# EAGLE library part LM5050 (library LM5050)
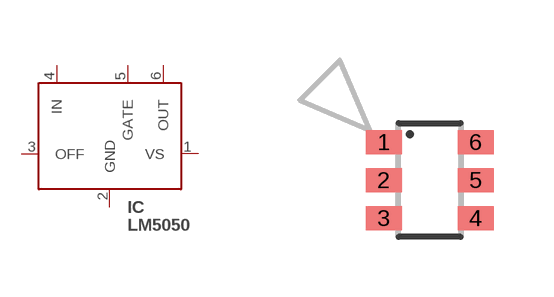
[diagram p0: symbol with the pads of SOT23-6; footprint SOT23-6]

Designator prefix IC

## LM5050MK-1 (MARK: SZHB; MF: Texas Instruments; MPN: LM5050MK-1/NOPB), LM5050Q0MK-1 (MARK: SL5B; MF: Texas Instruments; MPN: LM5050Q0MK-1/NOPB), LM5050Q1MK-1 (MARK: SP3B; MF: Texas Instruments; MPN: LM5050Q1MK-1/NOPB)  [SOT23-6]
1  VS  in
2  GND  in
3  OFF  in
4  IN  in
5  GATE  in
6  OUT  in

## LM5050MKX-1 (MARK: SZHB; MF: Texas Instruments; MPN: LM5050MKX-1/NOPB), LM5050Q0MKX-1 (MARK: SL5B; MF: Texas Instruments; MPN: LM5050Q0MKX-1/NOPB), LM5050Q1MKX-1 (MARK: SP3B; MF: Texas Instruments; MPN: LM5050Q1MKX-1/NOPB)  [SOT23-6]
Pads as for SOT23-6

## Footprint SOT23-6 (pad centres in mm)
Small Outline Transistor 6 lead
smd 0.9 x 0.6: 1 -1.15,0.95; 2 -1.15,0; 3 -1.15,-0.95; 4 1.15,-0.95; 5 1.15,0; 6 1.15,0.95